# Altium schematic symbol library MCP7940NT-I_MS.SchLib: 1 symbol
Pins are listed as number, name and electrical type; pins without a type are passive.

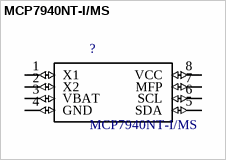
[diagram p0: symbol MCP7940NT-I/MS]

## MCP7940NT-I/MS
designator ?
Real Time Clock Serial 64Byte 8-Pin MSOP T/R; MF: Microchip; Price: None; Availability: Unavailable; MP: MCP7940NT-I/MS; Package: MSOP-8 Microchip; SnapEDA_Link: https://www.snapeda.com/parts/MCP7940NT-I/MS/Microchip/view-part/?ref=snap; Value: *
footprint *MSOP8
pins: 1 X1 (io), 2 X2 (io), 3 VBAT (io), 4 GND (io), 5 SDA (io), 6 SCL (io), 7 MFP (io), 8 VCC (io)